# Altium integrated library Conn Battery.IntLib: 8 symbols
Pins are listed as number, name and electrical type; pins without a type are passive.

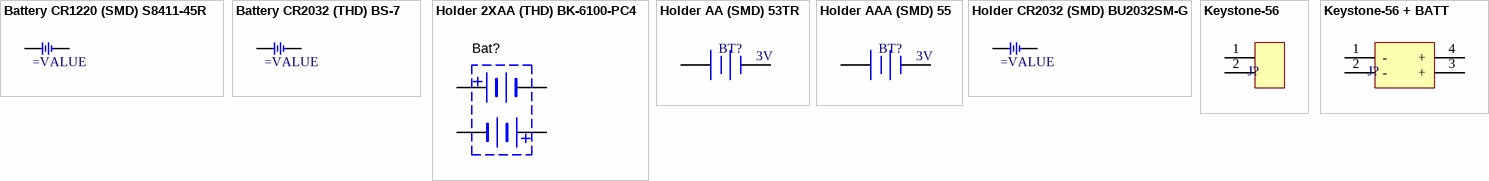
[diagram p0: symbols Battery CR1220 (SMD) S8411-45R to Keystone-56 + BATT]

## Battery CR1220 (SMD) S8411-45R
designator BT?
Battery Holder (Open) Coin, 12.0mm 1 Cell SMD (SMT) Tab; PartNumber: S8411-45R
footprint BTH1220 (COIN CELL BATTERY HOLDER 1220 12mm)
pins: 1, 2

## Battery CR2032 (THD) BS-7
designator BT?
BATTERY HOLDER, CR2032; PartNumber: BS-7
footprint BTH2032 (CR2032 BATTERY HOLDER)
pins: 1, 2

## Holder 2XAA (THD) BK-6100-PC4
designator Bat?, comment NiMH-AA x 2  (value not drawn)
Battery holder 2xAA PCB mount; PartNumber: MPD (Memory Protection Devices); Manufacturer Part Number 1: BK-6100-PC4; Ratings: 1300 mAh; Battery Type, Function: Cylindrical, Holder; Style: Holder (Open); Battery Cell Size: AA; Number of Cells: 2; Package / Case: per dwg; Supplier 1: Digi-Key; Supplier Part Number 1: BK-6100-PC4-ND; Mounting Type: PCB, Through Hole; Height Above Board: 0.657" (16.69mm); ComponentLink1URL: http://www.memoryprotectiondevices.com/datasheets/BK-6100-PC4-datasheet.pdf; ComponentLink1Description: http://www.memoryprotectiondevices.com/datasheets/BK-6100-PC4-datasheet.pdf
footprint BATT_HOLDER_2XAA (2-cell AA battery holder)
pins: C1+, C1-, C2+, C2-

## Holder AA (SMD) 53TR
designator BT?  Voltage: 3V
PartNumber: 53TR X 2 pcs
footprint BTH_AA_SMD
pins: +, -

## Holder AAA (SMD) 55
designator BT?  Voltage: 3V
PartNumber: 55TR X 2 pcs
footprint BTH_AAA_SMD
pins: +, -

## Holder CR2032 (SMD) BU2032SM-G
designator BT?
BATTERY HOLDER, CR2032 SMD; PartNumber: BU2032SM-G
footprint BTH2032_SMD2
pins: 1, 2

## Keystone-56
designator J?
PartNumber: Keystone-56
footprint KEYSTONE-56
pins: 1, 2

## Keystone-56 + BATT
designator J?
PartNumber: Keystone-56  x 2
footprint KEYSTONE-56 + BATT
pins: 1 -, 2 -, 3 +, 4 +